# EAGLE library part TMC222 (library _TMC)
TMC222 Micro Stepping Stepper Motor Controller / Driver with Two Wire Serial Interface
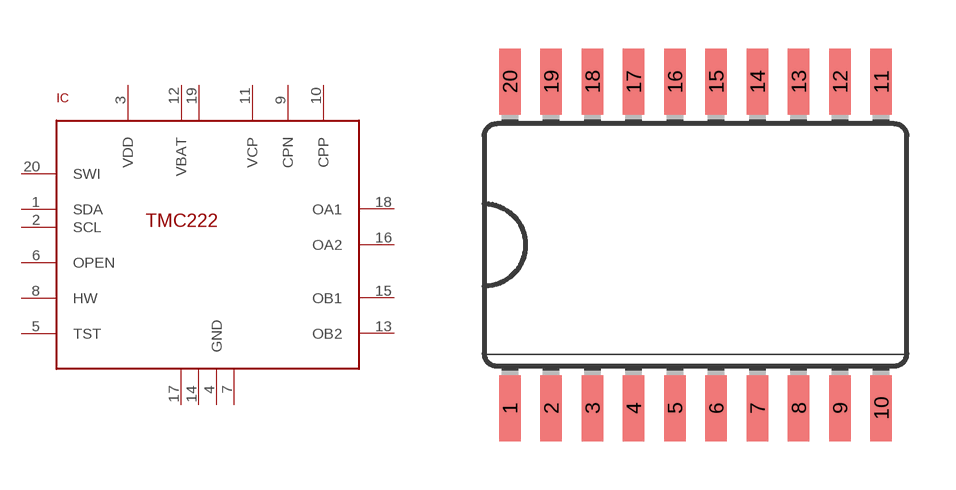
[diagram p0: symbol with the pads of SOIC20; footprint SOIC20]

Designator prefix IC

## TMC222  [SOIC20]
1  SDA
2  SCL
3  VDD
4  GND
5  TST
6  OPEN
7  GND2
8  HW
9  CPN
10  CPP
11  VCP
12  VBAT
13  OB2
14  GND3
15  OB1
16  OA2
17  GND4
18  OA1
19  VBAT2
20  SWI

## Footprint SOIC20 (pad centres in mm)
SOIC 20 (Wide)
smd 0.66 x 2.032: 1 -5.715,-5.029; 2 -4.445,-5.029; 3 -3.175,-5.029; 4 -1.905,-5.029; 5 -0.635,-5.029; 6 0.635,-5.029; 7 1.905,-5.029; 8 3.175,-5.029; 9 4.445,-5.029; 10 5.715,-5.029; 11 5.715,5.029; 12 4.445,5.029; 13 3.175,5.029; 14 1.905,5.029; 15 0.635,5.029; 16 -0.635,5.029; 17 -1.905,5.029; 18 -3.175,5.029; 19 -4.445,5.029; 20 -5.715,5.029